# Altium schematic symbol library Schlib3.SchLib: 1 symbol
Pins are listed as number, name and electrical type; pins without a type are passive.

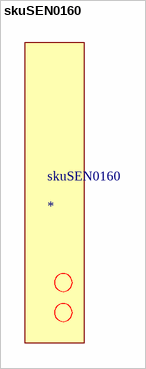
[diagram p0: symbol skuSEN0160]

## skuSEN0160
designator skuSEN0160
weight sensor skuSEN0160
footprint skuSEN0160 (weight sensor skuSEN0160)